# Altium footprint library CAPPRD500W60D1330H2700.PcbLib: 1 footprints
Each footprint in its own frame and in the unit in brackets; x right, y up, seen from the top. Pads: shape width x height; smd on the part's side, far side on the other; paste and mask are expansions set on the pad; w line width, h text height; cw(c..) or ccw(c..) is an arc to the next point about the centre after c.
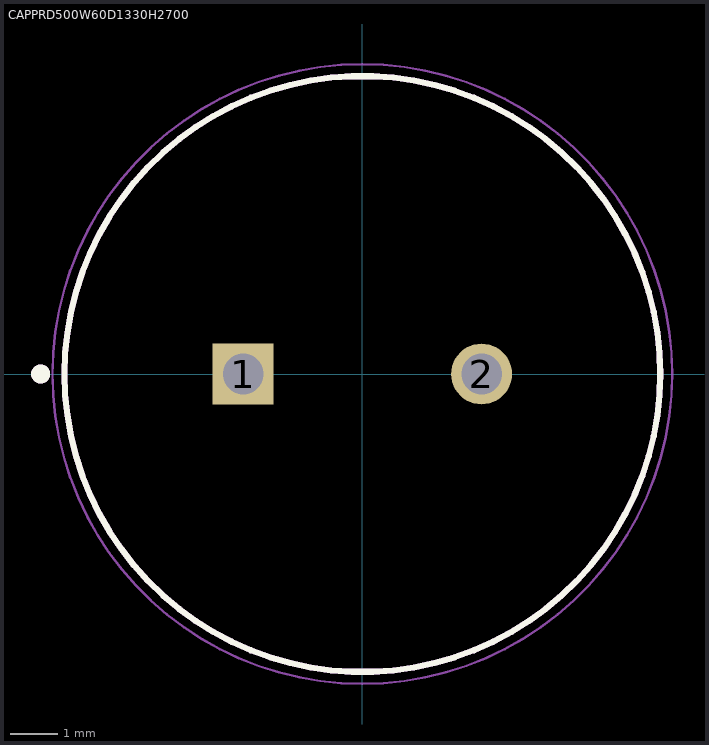
[diagram p0: the footprint, top view; thin cyan lines are the x and y axes]

## CAPPRD500W60D1330H2700 [mm]
height 27
pads (2):
  rect 1.28x1.28 / inner round 1.28 / far side rect 1.28x1.28 hole 0.85: 1(-2.5,0)
  round 1.28 hole 0.85: 2(2.5,0)
Top Overlay:
  circle w0.127: c0,0 r6.25
  circle w0.2: c-6.75,0 r0.1
Assembly Top:
  circle w0.127: c0,0 r6.25
  circle w0.2: c-6.75,0 r0.1
Courtyard Top:
  circle w0.05: c0,0 r6.5
3D body "step_temp.STEP": height 25, standoff -19, extent -6.25,-6.246 6.23,6.246